# EAGLE library part MH-ET-ESP32 (library IBe-9102-lib)
MH-ET ESP32: Mini Wi-Fi Board based on ESP-32 device More details can be found here: http://mh.nodebb.com/topic/8/mh-et-live-minikit-for-esp32 Click here to find device on ebay.com <http://www.ebay.com/sch/wemos+d1+mini+nodemcu>
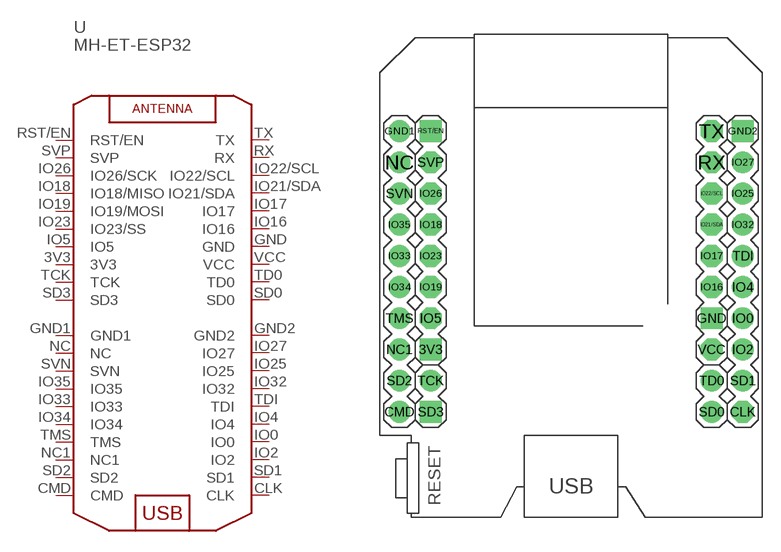
[diagram p1: symbol with the pads of MH-ET-ESP32; footprint MH-ET-ESP32]

Designator prefix -

## MH-ET-ESP32  [MH-ET-ESP32]
3V3  3V3  pwr
CLK  CLK
CMD  CMD
GND  GND  pwr
GND1  GND1
GND2  GND2
IO0  IO0
IO2  IO2
IO4  IO4
IO5  IO5
IO16  IO16
IO17  IO17
IO18  IO18/MISO
IO19  IO19/MOSI
IO21/SDA  IO21/SDA
IO22/SCL  IO22/SCL
IO23  IO23/SS
IO25  IO25
IO26  IO26/SCK
IO27  IO27
IO32  IO32
IO33  IO33
IO34  IO34
IO35  IO35
NC  NC
NC1  NC1
RST/EN  RST/EN
RX  RX
SD0  SD0
SD1  SD1
SD2  SD2
SD3  SD3
SVN  SVN
SVP  SVP
TCK  TCK
TD0  TD0
TDI  TDI
TMS  TMS
TX  TX
VCC  VCC  pwr

## Footprint MH-ET-ESP32 (pad centres in mm)
WEMOS D1 mini: Mini Wi-Fi Board based on ESP-8266 device
drill 1 pad 1.778 square: 3V3 -11.43,-8.255; GND 11.43,-5.715; GND2 13.97,9.525; RST/EN -11.43,9.525; SD3 -11.43,-13.335
drill 1 pad 1.778 octagon: CLK 13.97,-13.335; IO5 -11.43,-5.715; IO16 11.43,-3.175; IO17 11.43,-0.635; IO18 -11.43,1.905; IO19 -11.43,-3.175; IO21/SDA 11.43,1.905; IO22/SCL 11.43,4.445; IO23 -11.43,-0.635; IO26 -11.43,4.445; RX 11.43,6.985; SVP -11.43,6.985; TX 11.43,9.525; VCC 11.43,-8.255
drill 1 pad 1.778: CMD -13.97,-13.335; GND1 -13.97,9.525; IO0 13.97,-5.715; IO2 13.97,-8.255; IO4 13.97,-3.175; IO25 13.97,4.445; IO27 13.97,6.985; IO32 13.97,1.905; IO33 -13.97,-0.635; IO34 -13.97,-3.175; IO35 -13.97,1.905; NC -13.97,6.985; NC1 -13.97,-8.255; SD0 11.43,-13.335; SD1 13.97,-10.795; SD2 -13.97,-10.795; SVN -13.97,4.445; TCK -11.43,-10.795; TD0 11.43,-10.795; TDI 13.97,-0.635; TMS -13.97,-5.715